# Altium footprint library 45280-0801.PcbLib: 1 footprints
Each footprint in its own frame and in the unit in brackets; x right, y up, seen from the top. Pads: shape width x height; smd on the part's side, far side on the other; paste and mask are expansions set on the pad; w line width, h text height; cw(c..) or ccw(c..) is an arc to the next point about the centre after c.
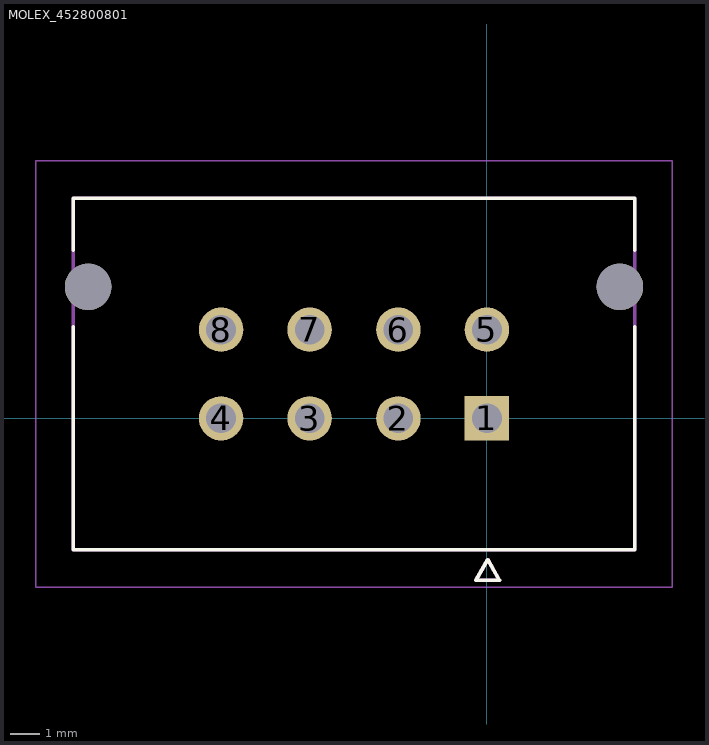
[diagram p0: the footprint, top view; thin cyan lines are the x and y axes]

## MOLEX_452800801 [mm]
pads (10):
  rect 1.505x1.505 hole 1.005 mask+0.076: 1(0,0)
  round 1.505 hole 1.005 mask+0.076: 2(-3,0) 3(-6,0) 4(-9,0) 5(0,3) 6(-3,3) 7(-6,3) 8(-9,3)
  round 1.57 hole 1.57 unplated mask+0.076: ""(-13.5,4.45) ""(4.5,4.45)
Top Overlay:
  lines w0.127: -14,3.1 -14,-4.45 5,-4.45 5,3.1 ; -14,5.7 -14,7.45 5,7.45 5,5.7 ; -0.375,-5.485 0.025,-4.785 0.425,-5.485 -0.375,-5.485
Top Solder:
  circle w0.829: c-9,3 r0.414
  circle w0.829: c-6,3 r0.414
  circle w0.829: c-3,3 r0.414
  circle w0.829: c0,3 r0.414
  circle w0.829: c-9,0 r0.414
  circle w0.829: c-6,0 r0.414
  circle w0.829: c-3,0 r0.414
Mechanical 13:
  lines w0.127: -14,-4.45 -14,7.45 5,7.45 5,-4.45 -14,-4.45 ; -0.375,-5.485 0.025,-4.785 0.425,-5.485 -0.375,-5.485
  text "PTH D1.005 +/- 0.065" at -14.13,-8.6 h0.5
  text "NPTH D1.57 +/- 0.10" at -14.13,-7.6 h0.5
Mechanical 15:
  lines w0.05: -15.27,-5.72 6.27,-5.72 6.27,8.72 -15.27,8.72 -15.27,-5.72